# EAGLE library part LM5107 (library LM5107)
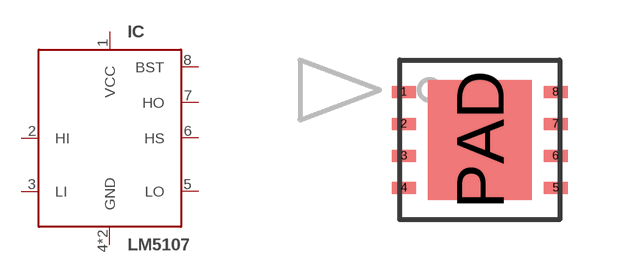
[diagram p0: symbol with the pads of WSON-8-4X4; footprint WSON-8-4X4]

Designator prefix IC

## LM5107SD/NOPB  [WSON-8-4X4]
1  VCC  in
2  HI  in
3  LI  in
4  GND  pwr
5  LO  out
6  HS  in
7  HO  out
8  BST
PAD  GND  pwr

## Footprint WSON-8-4X4 (pad centres in mm)
smd 0.6 x 0.3: 1 -1.9,1.2; 2 -1.9,0.4; 3 -1.9,-0.4; 4 -1.9,-1.2; 5 1.9,-1.2; 6 1.9,-0.4; 7 1.9,0.4; 8 1.9,1.2
smd 2.6 x 3: PAD 0,0